# EAGLE library part BLUETOOTH-RN-41 (library SparkFun-RF)
Roving Networks RN-41 Bluetooth Module The RN-41 module is a small form factor, low power, class 1 Bluetooth radio that is ideal for designers who want to add wireless capability to their products without spending significant time and money developing Bluetooth-specific hardware and software. The RN-41 supports multiple interface protocols, is simple to design in, and is fully certified, making it a complete embedded Bluetooth solution. SparkFun Products: Bluetooth SMD Module - RN-41 <https://www.sparkfun.com/products/12575> (WRL-12575) Bluetooth Module Breakout - Roving Networks (RN-41 v6.15) <https://www.sparkfun.com/products/12579> (WRL-12579)
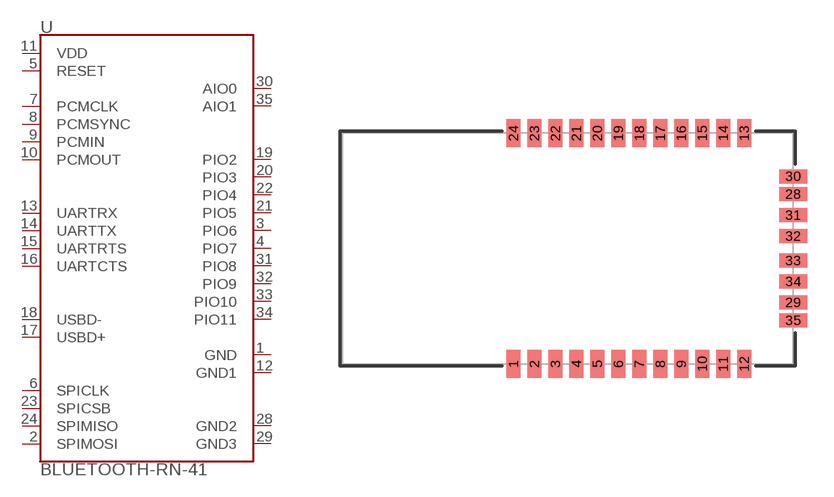
[diagram p1: symbol with the pads of RN41; footprint RN41]

Designator prefix -

## BLUETOOTH-RN-41" (PROD_ID: IC-11844; SF_ID: WRL-12575)  [RN41]
1  GND
2  SPIMOSI
3  PIO6
4  PIO7
5  RESET
6  SPICLK
7  PCMCLK
8  PCMSYNC
9  PCMIN
10  PCMOUT
11  VDD
12  GND1
13  UARTRX
14  UARTTX
15  UARTRTS
16  UARTCTS
17  USBD+
18  USBD-
19  PIO2
20  PIO3
21  PIO5
22  PIO4
23  SPICSB
24  SPIMISO
28  GND2
29  GND3
30  AIO0
31  PIO8
32  PIO9
33  PIO10
34  PIO11
35  AIO1

## Footprint RN41 (pad centres in mm)
Roving Networks RN-41 Bluetooth Module 13.4x25.8x2mm module Datasheet <http://cdn.sparkfun.com/datasheets/Wireless/Bluetooth/rn-41-ds-v3.41r.pdf>
smd 0.8 x 1.6: 1 -6.6,-6.6; 2 -5.4,-6.6; 3 -4.2,-6.6; 4 -3,-6.6; 5 -1.8,-6.6; 6 -0.6,-6.6; 7 0.6,-6.6; 8 1.8,-6.6; 9 3,-6.6; 10 4.2,-6.6; 11 5.4,-6.6; 12 6.6,-6.6; 13 6.6,6.6; 14 5.4,6.6; 15 4.2,6.6; 16 3,6.6; 17 1.8,6.6; 18 0.6,6.6; 19 -0.6,6.6; 20 -1.8,6.6; 21 -3,6.6; 22 -4.2,6.6; 23 -5.4,6.6; 24 -6.6,6.6
smd 1.6 x 0.8: 28 9.4,3.1; 29 9.4,-3.1; 30 9.4,4.122; 31 9.4,1.9; 32 9.4,0.7; 33 9.4,-0.7; 34 9.4,-1.9; 35 9.4,-4.122